# EAGLE library part P-22- (library con-headers-jp)
HEADER PLUG PINS
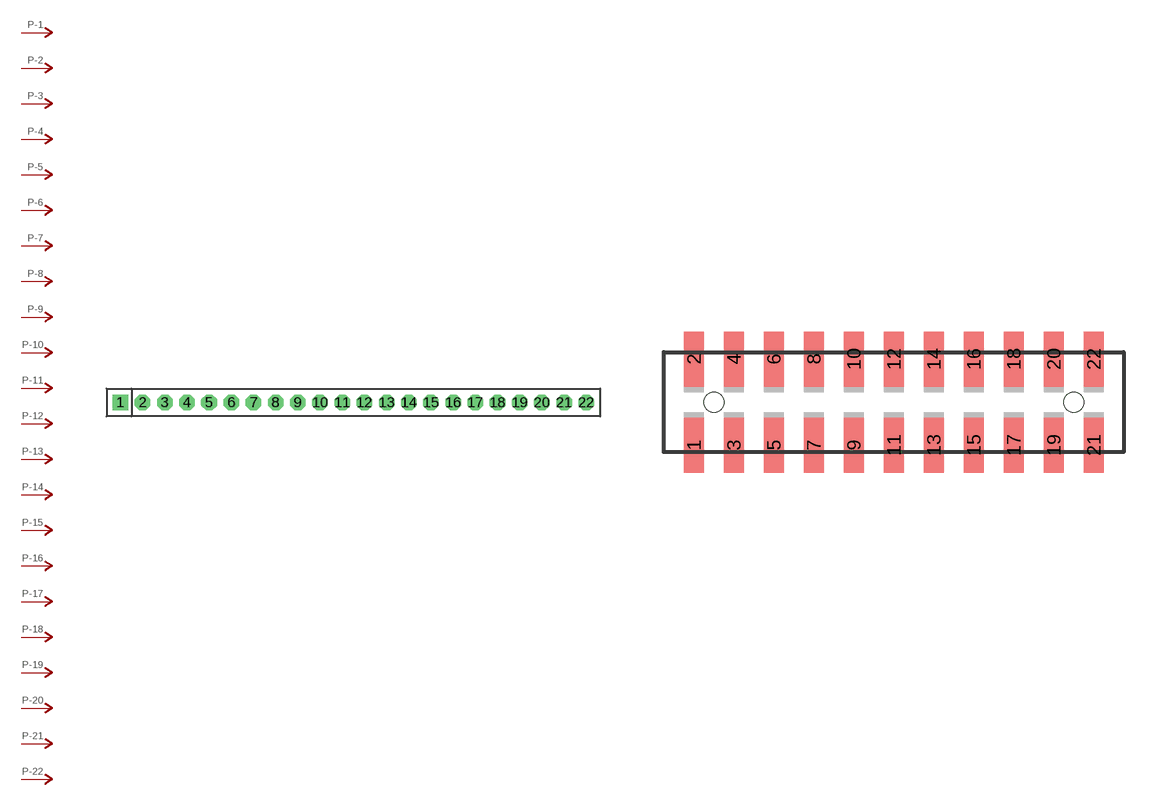
[diagram p18: symbol with the pads of SIP-100-22; footprints SIP-100-22, 87759-22]

Designator prefix P; gates -1=P-N -2=P-N -3=P-N -4=P-N -5=P-N -6=P-N -7=P-N -8=P-N -9=P-N -10=P-N -11=P-N -12=P-N -13=P-N -14=P-N -15=P-N -16=P-N -17=P-N -18=P-N -19=P-N -20=P-N -21=P-N -22=P-N

## P-22-SIP-100  [SIP-100-22]
1  -1:P  pas
2  -2:P  pas
3  -3:P  pas
4  -4:P  pas
5  -5:P  pas
6  -6:P  pas
7  -7:P  pas
8  -8:P  pas
9  -9:P  pas
10  -10:P  pas
11  -11:P  pas
12  -12:P  pas
13  -13:P  pas
14  -14:P  pas
15  -15:P  pas
16  -16:P  pas
17  -17:P  pas
18  -18:P  pas
19  -19:P  pas
20  -20:P  pas
21  -21:P  pas
22  -22:P  pas

## P-22-87759  [87759-22]
Pads as for SIP-100-22

## P-22-100-2X11  [HDR-100-2X11]
Pads as for SIP-100-22

## P-22-100-2X11_M  [HDR-100-2X11_M]
Pads as for SIP-100-22

## P-22-2MM-2X11  [HDR-2MM-2X11]
Pads as for SIP-100-22

## P-22-2MM-2X11_M  [HDR-2MM-2X11_M]
Pads as for SIP-100-22

## Footprint SIP-100-22 (pad centres in mm)
SIP Header - 0.1"
drill 0.914 pad 1.778 square: 1 -26.67,0
drill 0.914 pad 1.778 octagon: 2 -24.13,0; 3 -21.59,0; 4 -19.05,0; 5 -16.51,0; 6 -13.97,0; 7 -11.43,0; 8 -8.89,0; 9 -6.35,0; 10 -3.81,0; 11 -1.27,0; 12 1.27,0; 13 3.81,0; 14 6.35,0; 15 8.89,0; 16 11.43,0; 17 13.97,0; 18 16.51,0; 19 19.05,0; 20 21.59,0; 21 24.13,0; 22 26.67,0

## Footprint 87759-22 (pad centres in mm)
Molex PCB Pin Headers 2.00mm (.079") Pitch Milli-Grid Header, Vertical SMD
smd 1 x 2.75: 1 -10,-2.15; 2 -10,2.15; 3 -8,-2.15; 4 -8,2.15; 5 -6,-2.15; 6 -6,2.15; 7 -4,-2.15; 8 -4,2.15; 9 -2,-2.15; 10 -2,2.15; 11 0,-2.15; 12 0,2.15; 13 2,-2.15; 14 2,2.15; 15 4,-2.15; 16 4,2.15; 17 6,-2.15; 18 6,2.15; 19 8,-2.15; 20 8,2.15; 21 10,-2.15; 22 10,2.15
hole 1 at -9,0
hole 1 at 9,0

## Footprint HDR-100-2X11 (pad centres in mm)
PIN HEADER - 0.1"
drill 1.016 square: 1 -12.7,-1.27
drill 1.016 octagon: 2 -12.7,1.27; 3 -10.16,-1.27; 4 -10.16,1.27; 5 -7.62,-1.27; 6 -7.62,1.27; 7 -5.08,-1.27; 8 -5.08,1.27; 9 -2.54,-1.27; 10 -2.54,1.27; 11 0,-1.27; 12 0,1.27; 13 2.54,-1.27; 14 2.54,1.27; 15 5.08,-1.27; 16 5.08,1.27; 17 7.62,-1.27; 18 7.62,1.27; 19 10.16,-1.27; 20 10.16,1.27; 21 12.7,-1.27; 22 12.7,1.27

## Footprint HDR-100-2X11_M (pad centres in mm)
PIN HEADER - 0.1" - MIRRORED
drill 1.016 square: 1 -12.7,1.27
drill 1.016 octagon: 2 -12.7,-1.27; 3 -10.16,1.27; 4 -10.16,-1.27; 5 -7.62,1.27; 6 -7.62,-1.27; 7 -5.08,1.27; 8 -5.08,-1.27; 9 -2.54,1.27; 10 -2.54,-1.27; 11 0,1.27; 12 0,-1.27; 13 2.54,1.27; 14 2.54,-1.27; 15 5.08,1.27; 16 5.08,-1.27; 17 7.62,1.27; 18 7.62,-1.27; 19 10.16,1.27; 20 10.16,-1.27; 21 12.7,1.27; 22 12.7,-1.27

## Footprint HDR-2MM-2X11 (pad centres in mm)
PIN HEADER - 2MM"
drill 0.914 square: 1 -10,-1
drill 0.914 round: 2 -10,1; 3 -8,-1; 4 -8,1; 5 -6,-1; 6 -6,1; 7 -4,-1; 8 -4,1; 9 -2,-1; 10 -2,1; 11 0,-1; 12 0,1; 13 2,-1; 14 2,1; 15 4,-1; 16 4,1; 17 6,-1; 18 6,1; 19 8,-1; 20 8,1; 21 10,-1; 22 10,1

## Footprint HDR-2MM-2X11_M (pad centres in mm)
PIN HEADER - 2MM - MIRRORED
drill 0.914 square: 1 -10,1
drill 0.914 round: 2 -10,-1; 3 -8,1; 4 -8,-1; 5 -6,1; 6 -6,-1; 7 -4,1; 8 -4,-1; 9 -2,1; 10 -2,-1; 11 0,1; 12 0,-1; 13 2,1; 14 2,-1; 15 4,1; 16 4,-1; 17 6,1; 18 6,-1; 19 8,1; 20 8,-1; 21 10,1; 22 10,-1